# Altium footprint library PCB11.PcbLib: 29 footprints (part 2 of 2)
Each footprint in its own frame and in the unit in brackets; x right, y up, seen from the top. Pads: shape width x height; smd on the part's side, far side on the other; paste and mask are expansions set on the pad; w line width, h text height; cw(c..) or ccw(c..) is an arc to the next point about the centre after c.
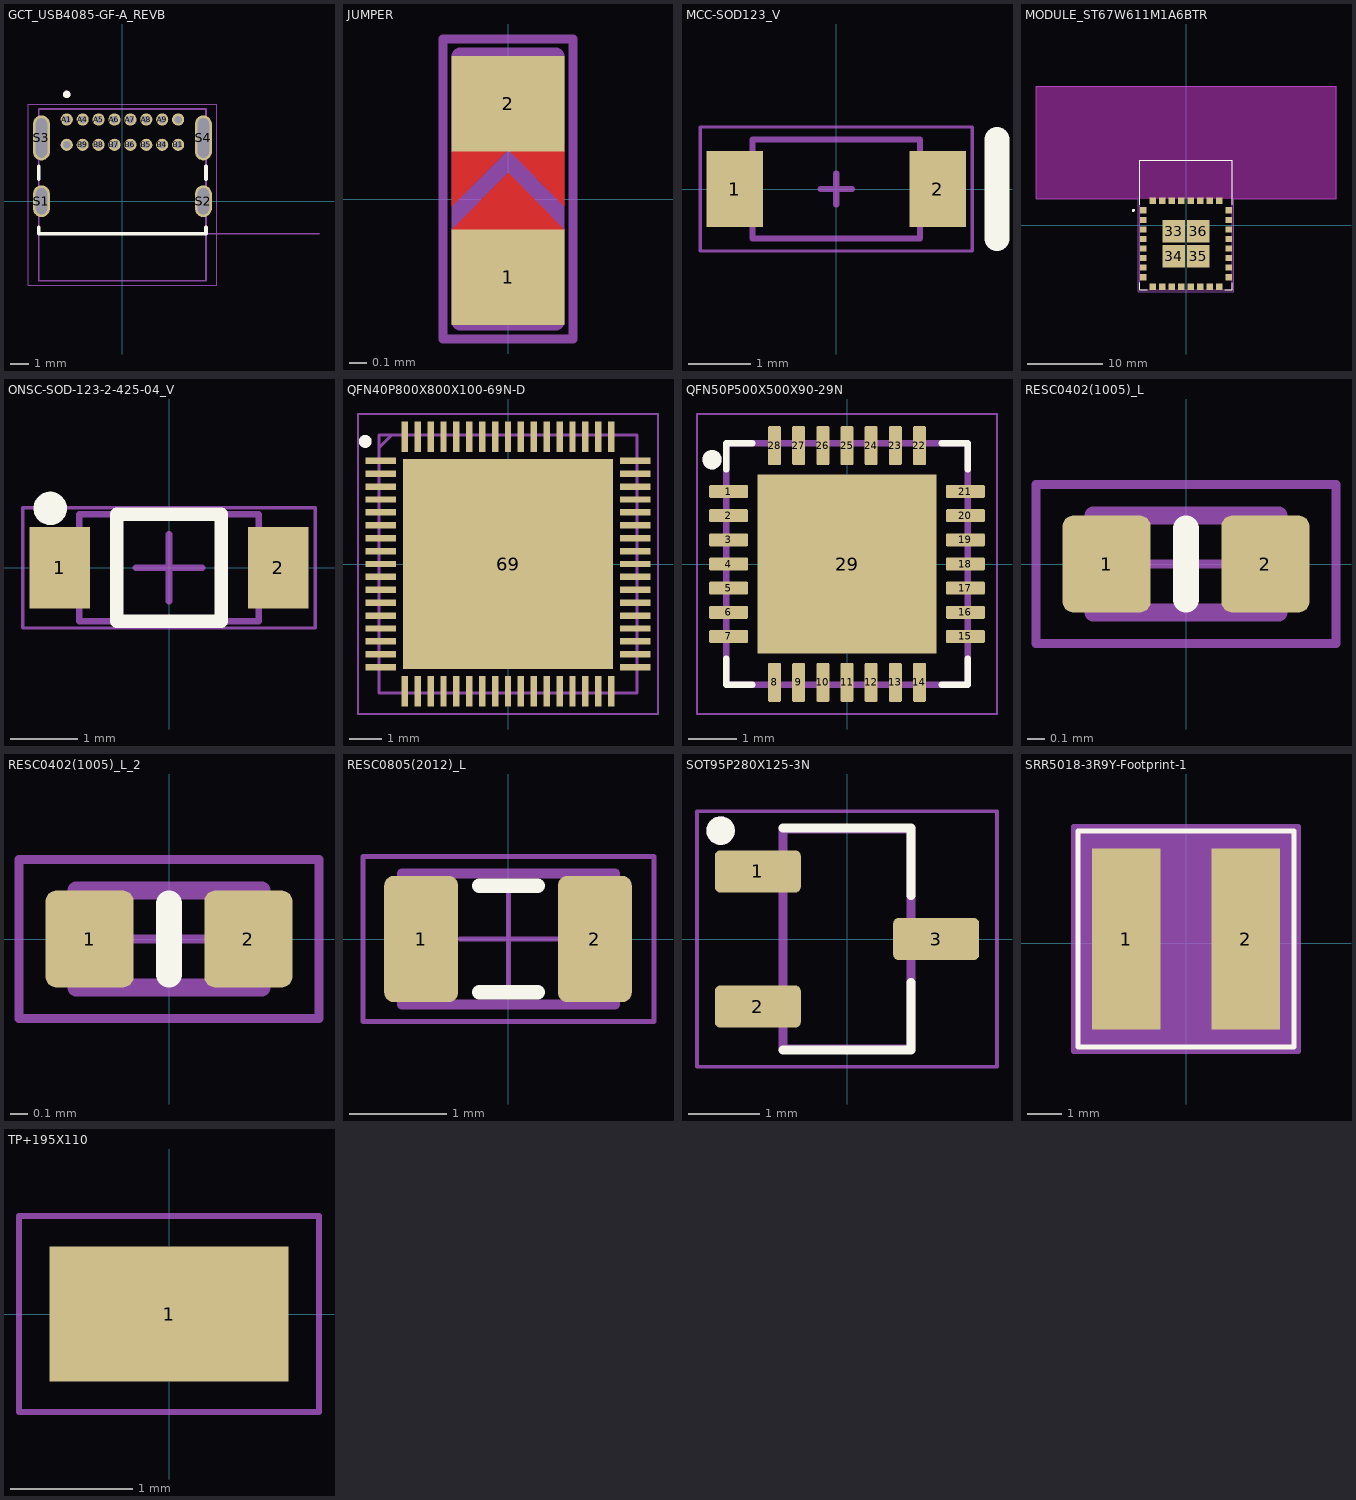
[diagram p1: the footprints below, top view; thin cyan lines are the x and y axes]

## GCT_USB4085-GF-A_REVB [mm]
height 3.16
pads (20):
  round 0.65 hole 0.4: A1(-2.975,4.36) A4(-2.125,4.36) A5(-1.275,4.36) A6(-0.425,4.36) A7(0.425,4.36) A8(1.275,4.36) A9(2.125,4.36) A12(2.975,4.36) B1(2.975,3.01) B4(2.125,3.01) B5(1.275,3.01) B6(0.425,3.01) B7(-0.425,3.01) B8(-1.275,3.01) B9(-2.125,3.01) B12(-2.975,3.01)
  oval 0.9x1.7 hole 0.6 slot 1.4 at 90 deg: S1(-4.325,0) S2(4.325,0)
  oval 0.9x2.4 hole 0.6 slot 2.1 at 90 deg: S3(-4.325,3.38) S4(4.325,3.38)
Top Overlay:
  circle w0.2: c-2.975,5.7 r0.1
  lines w0.2: -4.47,-1.39 -4.47,-1.74 4.47,-1.74 4.47,-1.39 ; -4.47,1.17 -4.47,1.85 ; 4.47,1.17 4.47,1.85
Top 3D Body:
  circle w0.2: c-2.975,5.7 r0.1
  lines w0.1: 10.5,-1.74 -4.47,-1.74 ; -4.47,-1.74 -4.47,4.92 4.47,4.92 4.47,-4.25 -4.47,-4.25 -4.47,-1.74
  text "PCB EDGE" at 4.928,0.58 h0.81
Mechanical 15:
  lines w0.05: -5.025,-4.5 -5.025,5.17 5.025,5.17 5.025,-4.5 -5.025,-4.5
3D body "step_temp.STEP": height 3.46, standoff -2.1, extent -4.47,-4.25 4.47,4.92

## JUMPER [mm]
pads (2):
  rect 0.65x0.55 smd paste-2.54 mask-2.54: 1(0,-0.45) 2(0,0.55)
Top Layer:
  region: -0.325,-0.175 0.003,0.152 0.325,-0.175
  region: -0.325,-0.041 0,0.284 0.325,-0.041 0.325,0.318 -0.325,0.318
Top Solder:
  rectangle: -0.325,-0.728 0.325,0.822
Top 3D Body:
  region: 0.003,0.152 0.003,0.147 0.325,-0.175 0.325,-0.041 0,0.284 -0.325,-0.041 -0.325,-0.175
  lines w0.1: -0.275,-0.706 0.275,-0.706 0.275,0.823 -0.275,0.823 -0.275,-0.706
Mechanical 15:
  lines w0.05: -0.375,-0.806 0.375,-0.806 0.375,0.923 -0.375,0.923 -0.375,-0.806

## MCC-SOD123_V [mil] "SOD123, 2-Leads, Body 2.7x1.6mm, Height 1.35mm"
height 53.15
pads (2):
  rect 35.98x47.99 smd: 1(-64.5,0) 2(64.5,0)
Top Overlay:
  lines w15.75: 102.17,-31.5 102.17,31.5
Top 3D Body:
  lines w3.94: -53.15,-31.5 -53.15,31.5 53.15,31.5 53.15,-31.5 -53.15,-31.5
Mechanical 15:
  lines w1.97: -86.42,-39.37 -86.42,39.37 86.42,39.37 86.42,-39.37 -86.42,-39.37
  lines w3.94: -9.84,0 9.84,0 ; 0,-9.84 0,9.84
3D body: height 53.15, standoff 0, extent -53.15,-31.5 53.15,31.5
3D body: height 53.19, standoff 53.15, extent 38.58,-31.5 53.15,31.5

## MODULE_ST67W611M1A6BTR [mm]
height 2.37
pads (36):
  rect 0.847x0.847 smd paste+0 mask+0.102: 1(-5.717,1.945) 2(-5.717,0.675) 3(-5.717,-0.595) 4(-5.717,-1.865) 5(-5.717,-3.135) 6(-5.717,-4.405) 7(-5.717,-5.675) 8(-5.717,-6.945) 9(-4.445,-8.217) 10(-3.175,-8.217) 11(-1.905,-8.217) 12(-0.635,-8.217) 13(0.635,-8.217) 14(1.905,-8.217) 15(3.175,-8.217) 16(4.445,-8.217) 17(5.717,-6.945) 18(5.717,-5.675) 19(5.717,-4.405) 20(5.717,-3.135) 21(5.717,-1.865) 22(5.717,-0.595) 23(5.717,0.675) 24(5.717,1.945) 25(4.445,3.217) 26(3.175,3.217) 27(1.905,3.217) 28(0.635,3.217) 29(-0.635,3.217) 30(-1.905,3.217) 31(-3.175,3.217) 32(-4.445,3.217)
  rect 3x3 smd paste+0 mask+0.102: 33(-1.65,-0.85) 34(-1.65,-4.15) 35(1.65,-4.15) 36(1.65,-0.85)
Top Overlay:
  circle w0.2: c-7,1.945 r0.1
  lines w0.127: -6.14,-7.689 -6.14,-8.64 -5.189,-8.64 ; -6.14,2.689 -6.14,8.64 6.14,8.64 6.14,2.689 ; 5.189,-8.64 6.14,-8.64 6.14,-7.689
Keep-Out Layer:
  region: 20,3.49 4.868,3.49 4.868,3.64 4.022,3.64 4.022,3.49 3.598,3.49 3.598,3.64 2.752,3.64 2.752,3.49 2.328,3.49 2.328,3.64 1.482,3.64 1.482,3.49 1.058,3.49 1.058,3.64 0.212,3.64 0.212,3.49 -0.212,3.49 -0.212,3.64 -1.058,3.64 -1.058,3.49 -1.482,3.49 -1.482,3.64 -2.328,3.64 -2.328,3.49 -2.752,3.49 -2.752,3.64 -3.598,3.64 -3.598,3.49 -4.022,3.49 -4.022,3.64 -4.868,3.64 -4.868,3.49 -20,3.49 -20,18.49 20,18.49
  region: 20,3.49 4.868,3.49 4.868,3.64 4.022,3.64 4.022,3.49 3.598,3.49 3.598,3.64 2.752,3.64 2.752,3.49 2.328,3.49 2.328,3.64 1.482,3.64 1.482,3.49 1.058,3.49 1.058,3.64 0.212,3.64 0.212,3.49 -0.212,3.49 -0.212,3.64 -1.058,3.64 -1.058,3.49 -1.482,3.49 -1.482,3.64 -2.328,3.64 -2.328,3.49 -2.752,3.49 -2.752,3.64 -3.598,3.64 -3.598,3.49 -4.022,3.49 -4.022,3.64 -4.868,3.64 -4.868,3.49 -20,3.49 -20,18.49 20,18.49
Top 3D Body:
  circle w0.2: c-7,1.945 r0.1
  lines w0.127: -6.14,-8.64 -6.14,8.64 6.14,8.64 6.14,-8.64 -6.14,-8.64
Mechanical 15:
  lines w0.05: -20,3.49 -20,18.49 20,18.49 20,3.49 6.39,3.49 6.39,-8.89 -6.39,-8.89 -6.39,3.49 -20,3.49
3D body "step_temp.STEP": height 2.2, standoff 0, extent -6.14,-8.64 6.14,8.64

## ONSC-SOD-123-2-425-04_V [mm] "SOD, 2-Leads, Body 2.69x1.6mm"
height 1.35
pads (2):
  rect 0.91x1.22 smd: 1(-1.635,0) 2(1.635,0)
Top Overlay:
  circle w0.25: c-1.778,0.889 r0.125
  lines w0.2: -0.78,-0.8 -0.78,0.8 0.78,0.8 0.78,-0.8 -0.78,-0.8
Top 3D Body:
  lines w0.1: -1.345,-0.8 -1.345,0.8 1.345,0.8 1.345,-0.8 -1.345,-0.8
Mechanical 15:
  lines w0.05: -2.19,-0.9 -2.19,0.9 2.19,0.9 2.19,-0.9 -2.19,-0.9
  lines w0.1: -0.5,0 0.5,0 ; 0,-0.5 0,0.5
3D body: height 1.35, standoff 0, extent -1.345,-0.8 1.345,0.8

## QFN40P800X800X100-69N-D [mm]
pads (69):
  rect 0.95x0.2 smd: 1(-3.95,3.2) 2(-3.95,2.8) 3(-3.95,2.4) 4(-3.95,2) 5(-3.95,1.6) 6(-3.95,1.2) 7(-3.95,0.8) 8(-3.95,0.4) 9(-3.95,0) 10(-3.95,-0.4) 11(-3.95,-0.8) 12(-3.95,-1.2) 13(-3.95,-1.6) 14(-3.95,-2) 15(-3.95,-2.4) 16(-3.95,-2.8) 17(-3.95,-3.2) 35(3.95,-3.2) 36(3.95,-2.8) 37(3.95,-2.4) 38(3.95,-2) 39(3.95,-1.6) 40(3.95,-1.2) 41(3.95,-0.8) 42(3.95,-0.4) 43(3.95,0) 44(3.95,0.4) 45(3.95,0.8) 46(3.95,1.2) 47(3.95,1.6) 48(3.95,2) 49(3.95,2.4) 50(3.95,2.8) 51(3.95,3.2)
  rect 0.2x0.95 smd: 18(-3.2,-3.95) 19(-2.8,-3.95) 20(-2.4,-3.95) 21(-2,-3.95) 22(-1.6,-3.95) 23(-1.2,-3.95) 24(-0.8,-3.95) 25(-0.4,-3.95) 26(0,-3.95) 27(0.4,-3.95) 28(0.8,-3.95) 29(1.2,-3.95) 30(1.6,-3.95) 31(2,-3.95) 32(2.4,-3.95) 33(2.8,-3.95) 34(3.2,-3.95) 52(3.2,3.95) 53(2.8,3.95) 54(2.4,3.95) 55(2,3.95) 56(1.6,3.95) 57(1.2,3.95) 58(0.8,3.95) 59(0.4,3.95) 60(0,3.95) 61(-0.4,3.95) 62(-0.8,3.95) 63(-1.2,3.95) 64(-1.6,3.95) 65(-2,3.95) 66(-2.4,3.95) 67(-2.8,3.95) 68(-3.2,3.95)
  rect 6.5x6.5 smd paste-2539.97: 69(0,0)
Top Overlay:
  circle w0.2: c-4.425,3.8 r0.1
Mechanical 15:
  lines w0.1: -4,3.6 -3.6,4 ; -4,-4 4,-4 4,4 -4,4 -4,-4
Mechanical 20:
  lines w0.05: -4.65,-4.65 4.65,-4.65 4.65,4.65 -4.65,4.65 -4.65,-4.65
3D body "VFQFN68-8x8mm.step": height 0.99, standoff 0, extent -4.077,-4.077 4.077,4.077

## QFN50P500X500X90-29N [mm]
height 0.9
pads (29):
  rrect25% 0.81x0.27 smd: 1(-2.45,1.5) 2(-2.45,1) 3(-2.45,0.5) 4(-2.45,0) 5(-2.45,-0.5) 6(-2.45,-1) 7(-2.45,-1.5) 15(2.45,-1.5) 16(2.45,-1) 17(2.45,-0.5) 18(2.45,0) 19(2.45,0.5) 20(2.45,1) 21(2.45,1.5)
  rrect25% 0.27x0.81 smd: 8(-1.5,-2.45) 9(-1,-2.45) 10(-0.5,-2.45) 11(0,-2.45) 12(0.5,-2.45) 13(1,-2.45) 14(1.5,-2.45) 22(1.5,2.45) 23(1,2.45) 24(0.5,2.45) 25(0,2.45) 26(-0.5,2.45) 27(-1,2.45) 28(-1.5,2.45)
  rect 3.7x3.7 smd paste+0: 29(0,0)
Top Overlay:
  circle w0.2: c-2.794,2.159 r0.1
  lines w0.127: -2.5,-1.955 -2.5,-2.5 -1.955,-2.5 ; -2.5,1.955 -2.5,2.5 -1.955,2.5 ; 1.955,-2.5 2.5,-2.5 2.5,-1.955 ; 1.955,2.5 2.5,2.5 2.5,1.955
Top 3D Body:
  circle w0.2: c-2.794,2.159 r0.1
  lines w0.127: -2.5,-2.5 2.5,-2.5 2.5,2.5 -2.5,2.5 -2.5,-2.5
Mechanical 15:
  lines w0.05: -3.105,-3.105 3.105,-3.105 3.105,3.105 -3.105,3.105 -3.105,-3.105
3D body "step_temp.STEP": height 0.9, standoff 0, extent -2.5,-2.5 2.5,2.5

## RESC0402(1005)_L [mm] "Chip Resistor, Body 1.0x0.5mm, IPC High Density"
height 0.4
pads (2):
  rrect25% 0.5x0.55 smd: 1(-0.45,0) 2(0.45,0)
Top Overlay:
  lines w0.15: 0,-0.2 0,0.2
Top Assembly:
  lines w0.1: -0.525,-0.275 0.525,-0.275 0.525,0.275 -0.525,0.275 -0.525,-0.275
Top Courtyard:
  lines w0.05: -0.275,0 0.275,0 ; 0,-0.275 0,0.275 ; -0.85,-0.45 0.85,-0.45 0.85,0.45 -0.85,0.45 -0.85,-0.45
Top Designator:
  text ".Designator" at -1.27,-0.127 h0.6
3D body "RES0402.step": height 0.3, standoff 0, extent -0.5,-0.25 0.5,0.25

## RESC0402(1005)_L_2 [mm]
pads (2):
  rrect25% 0.5x0.55 smd: 1(-0.45,0) 2(0.45,0)
Top Overlay:
  lines w0.15: 0,-0.2 0,0.2
Top Assembly:
  lines w0.1: -0.525,-0.275 -0.525,0.275 0.525,0.275 0.525,-0.275 -0.525,-0.275
Top Courtyard:
  lines w0.05: -0.275,0 0.275,0 ; 0,-0.275 0,0.275 ; -0.85,-0.45 -0.85,0.45 0.85,0.45 0.85,-0.45 -0.85,-0.45
Top Designator:
  text ".Designator" at -1.27,-0.127 h0.6
3D body "RES0402.step": height 0.3, standoff 0, extent -0.5,-0.25 0.5,0.25

## RESC0805(2012)_L [mm] "Chip Resistor, Body 2.0x1.3mm, IPC High Density"
height 0.7
pads (2):
  rrect25% 0.76x1.3 smd: 1(-0.9,0) 2(0.89,0)
Top Overlay:
  lines w0.15: -0.3,-0.55 0.3,-0.55 ; -0.3,0.55 0.3,0.55
Top Assembly:
  lines w0.1: -1.1,-0.675 -1.1,0.675 1.1,0.675 1.1,-0.675 -1.1,-0.675
Top Courtyard:
  lines w0.05: -0.5,0 0.5,0 ; 0,-0.5 0,0.5 ; -1.5,-0.85 -1.5,0.85 1.5,0.85 1.5,-0.85 -1.5,-0.85
Top Designator:
  text ".Designator" at -1.27,-0.127 h0.6
3D body "RES0805.step": height 0.6, standoff 0, extent -1,-0.625 1,0.625

## SOT95P280X125-3N [mm]
pads (3):
  rrect25% 1.21x0.59 smd: 1(-1.255,0.95) 2(-1.255,-0.95) 3(1.255,0)
Top Overlay:
  circle w0.2: c-1.778,1.524 r0.1
  lines w0.127: -0.9,-1.559 0.9,-1.559 0.9,-0.609 ; -0.9,1.559 0.9,1.559 0.9,0.609
Top 3D Body:
  circle w0.2: c-1.778,1.524 r0.1
  lines w0.127: -0.9,-1.55 -0.9,1.55 0.9,1.55 0.9,-1.55 -0.9,-1.55
Mechanical 15:
  lines w0.05: -2.11,-1.8 2.11,-1.8 2.11,1.8 -2.11,1.8 -2.11,-1.8
3D body "step_temp.STEP": height 1.25, standoff 0, extent -1.4,-1.45 1.4,1.45

## SRR5018-3R9Y-Footprint-1 [mil]
pads (2):
  rect 79x209 smd paste+0 mask+0: 1(-69,5) 2(69,5)
Top Overlay:
  lines w6: -125,-120 -125,130 125,130 125,-120 -125,-120
Top 3D Body:
  lines w1: -120,-115 -120,125 120,125 120,-115 -120,-115
  text ".Designator" at -80,-38 h50
Mechanical 15:
  region: -130,-109.5 -130,119.5 -130,135 130,135 130,119.5 130,-109.5 130,-125 -130,-125
  lines w6: -130,-125 130,-125 130,-109.5 130,119.5 130,135 -130,135 -130,119.5 -130,-109.5 -130,-125
3D body "IND_BOURNS_SRR5018.step": height 79.02, standoff 0, extent -120,-115.12 120,125.12

## TP+195X110 [mm]
height 1.3
pads (1):
  rect 1.95x1.1 smd: 1(0,0)
Top 3D Body:
  lines w0.127: -0.8,-0.4 -0.8,0.4 0.8,0.4 0.8,-0.4 -0.8,-0.4
Mechanical 15:
  lines w0.05: -1.225,-0.8 -1.225,0.8 1.225,0.8 1.225,-0.8 -1.225,-0.8